# Altium schematic symbol library CL10B225KP8NNNC.SchLib: 1 symbol
Pins are listed as number, name and electrical type; pins without a type are passive.

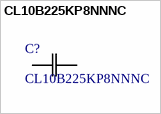
[diagram p0: symbol CL10B225KP8NNNC]

## CL10B225KP8NNNC
designator C?
No Description Available; Manufacturer_Name: Samsung; Copyright: Copyright (C) 2025 Ultra Librarian. All rights reserved.; Manufacturer_Part_Number: CL10B225KP8NNNC
footprint CAP_CL10_SAM
pins: 1, 2